# Altium schematic symbol library 2007263-1.SchLib: 1 symbol
Pins are listed as number, name and electrical type; pins without a type are passive.

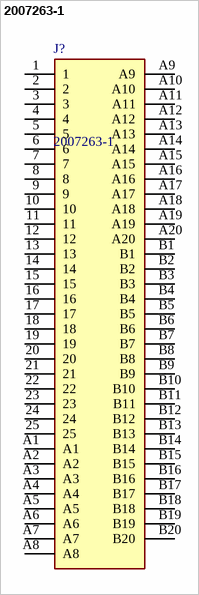
[diagram p0: symbol 2007263-1]

## 2007263-1
designator J?
Configuration Features: Number of Ports 2 | Port Matrix Configuration 1 x 2 | Dimensions: PCB Thickness (Recommended) 2.25 MM | PCB Thickness (Recommended) .089 INCH | Electrical Characteristics: Data Rate (Max) 16 GBS | Housing Features: Cage Material Nickel Silver | Operation/Application: Pluggable I/O Applications SFP+ | Heat Sink Compatible No | Other: Included Lightpipe No | EMI Containment Feature Type Internal/External EMI Springs | Packaging Features: Packaging Method Box | Product Type Features: Se; Manufacturer_Name: TE Connectivity; Geometry.Height: 9.8mm; Manufacturer_Part_Number: 2007263-1; Mouser Part Number: 571-2007263-1; Mouser Price/Stock: https://www.mouser.co.uk/ProductDetail/TE-Connectivity/2007263-1?qs=4zF2lffhceF8GItBX4M8mw%3D%3D; Arrow Part Number: 2007263-1; Arrow Price/Stock: https://www.arrow.com/en/products/2007263-1/te-connectivity?region=europe; Datasheet Link: https://www.te.com/commerce/DocumentDelivery/DDEController?Action=srchrtrv&DocNm=4-1773455-3_Quick_Ref_Guide_SFP%2B_Sol&DocType=Data%20Sheet&DocLang=English&PartCntxt=2007263-1&DocFormat=pdf
footprint 20072631
pins: 1, 2, 3, 4, 5, 6, 7, 8, 9, 10, 11, 12, 13, 14, 15, 16, 17, 18, 19, 20, 21, 22, 23, 24, 25, A1, A2, A3, A4, A5, A6, A7, A8, A9, A10, A11, A12, A13, A14, A15, A16, A17, A18, A19, A20, B1, B2, B3, B4, B5, B6, B7, B8, B9, B10, B11, B12, B13, B14, B15, B16, B17, B18, B19, B20